# Altium schematic symbol library MRF49XA.SchLib: 1 symbol
Pins are listed as number, name and electrical type; pins without a type are passive.

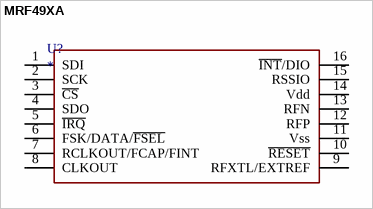
[diagram p0: symbol MRF49XA]

## MRF49XA
designator U?
ISM Band Sub-GHz RF Transceiver
footprint TSSOP-16N (MRX49XA)
pins: 1 SDI "Termal Pad", 2 SCK "Termal Pad", 3 ~{CS} "Termal Pad", 4 SDO "Termal Pad", 5 ~{IRQ} "Termal Pad", 6 FSK/DATA/~{FSEL} "Termal Pad", 7 RCLKOUT/FCAP/FINT "Termal Pad", 8 CLKOUT "Termal Pad", 9 RFXTL/EXTREF "Termal Pad", 10 ~{RESET} "Termal Pad", 11 Vss "Termal Pad", 12 RFP "Termal Pad", 13 RFN "Termal Pad", 14 Vdd "Termal Pad", 15 RSSIO "Termal Pad", 16 ~{INT}/DIO "Termal Pad"